# Altium schematic symbol library schematy.SchLib: 6 symbols
Pins are listed as number, name and electrical type; pins without a type are passive.

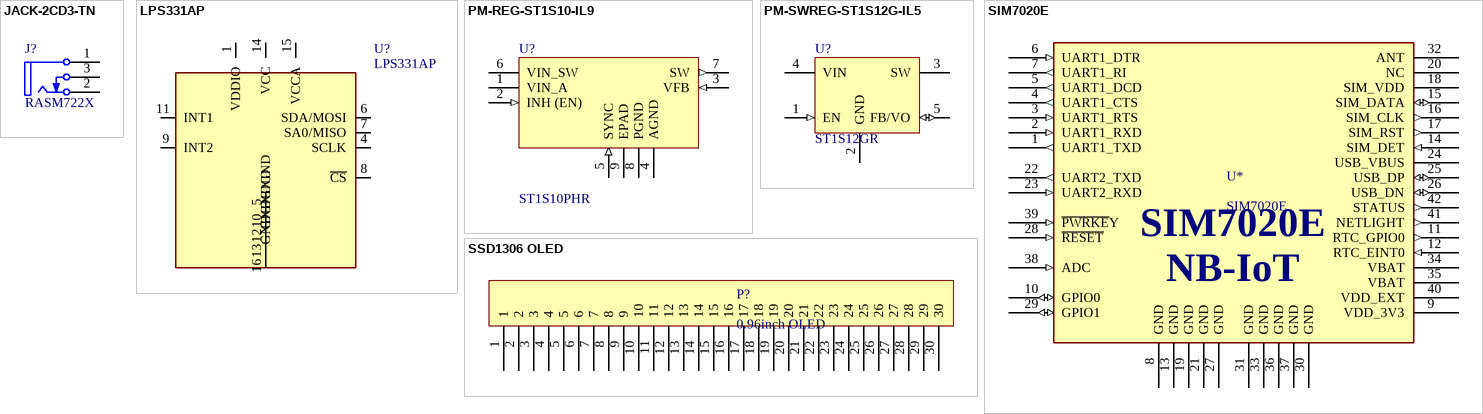
[diagram p0: symbols JACK-2CD3-TN to SSD1306 OLED]

## JACK-2CD3-TN
designator J?, comment RASM722X
Power Jack, 5 A, 250 V, 3-Pin SMD, RoHS, Bulk; ComponentLink1URL: http://www.switchcraft.com/; ComponentLink2URL: http://www.switchcraft.com/Drawings/rasm732x_cd.pdf; ComponentLink1Description: Manufacturer URL; PackageReference: RASM722X; ComponentLink2Description: Datasheet; DatasheetVersion: Rev. A, 09/2005; PackageDescription: 3-Pin Surface Mount Device, Body 14.5 x 9 mm
footprint SWIT-RASM722X_V (SMD, 3-Leads, Body 14.5x9mm)
pins: 1 SLEEVE, 2 TIP, 3 SHUNT

## LPS331AP
designator U?
IC PRESSURE SENSOR PIEZO 16HCLGA; Package: None; Price: None; Value: *; MP: LPS331AP; Availability: Unavailable
footprint HCLGA-16/3MM
pins: 1 VDDIO (io), 4 SCLK (io), 5 GND (io), 6 SDA/MOSI (io), 7 SA0/MISO (io), 8 ~{CS} (io), 9 INT2 (io), 10 GND (io), 11 INT1 (io), 12 GND (io), 13 GND (io), 14 VCC (io), 15 VCCA (io), 16 GND (io)

## PM-REG-ST1S10-IL9
designator U?, comment ST1S10PHR
Monolithic synchronous step-down regulator, 8-Pin HSOP, Tape and Reel; ComponentLink2Description: Datasheet; PackageDescription: 8-Pin Small Outline Integrated Circuit 1.27 mm Pitch; ComponentLink2URL: http://www.st.com/internet/com/TECHNICAL_RESOURCES/TECHNICAL_LITERATURE/DATASHEET/CD00169322.pdf; ComponentLink1Description: Manufacturer URL; PackageVersion: 2007; DatasheetVersion: Mar-2011; PackageReference: HSO-8; ComponentLink1URL: http://www.st.com
pins: 1 VIN_A (power), 2 INH (EN) (in), 3 VFB (in), 4 AGND (power), 5 SYNC (in), 6 VIN_SW (power), 7 SW (out), 8 PGND (power), 9 EPAD (power)

## PM-SWREG-ST1S12G-IL5
designator U?, comment ST1S12GR
Synchronous rectification with inhibit, 0.7 A, 1.7 MHz adjustable, step-down switching regulator, 5-Pin TSOT, Tape and Reel; ComponentLink1Description: Manufacturer URL; PackageVersion: 2011; ComponentLink2Description: Datasheet; PackageDescription: 5-Pin SOT-23 Package, 2.9 x 1.6 mm Body, 0.95 mm Pitch, 2.8 mm Lead Span; ComponentLink1URL: http://www.st.com; PackageReference: TSOT23-5L; ComponentLink2URL: http://www.st.com/internet/com/TECHNICAL_RESOURCES/TECHNICAL_LITERATURE/DATASHEET/CD00181873.pdf; DatasheetVersion: Jun-2011
footprint TSOT23-5L_L (SOT23, 5-Leads, Body 2.9x1.6mm, Pitch 0.95mm, Lead Span 2.8mm, IPC High Density)
footprint TSOT23-5L_M (SOT23, 5-Leads, Body 2.9x1.6mm, Pitch 0.95mm, Lead Span 2.8mm, IPC Low Density)
footprint TSOT23-5L_N (SOT23, 5-Leads, Body 2.9x1.6mm, Pitch 0.95mm, Lead Span 2.8mm, IPC Medium Density)
pins: 1 EN (in), 2 GND (power), 3 SW (power), 4 VIN (power), 5 FB/VO (io)

## SIM7020E
designator U*
Narrowband-IoT communication module; Control Via AT Commands; UART; SIM card (1.8V/3V) GPIO; ADC; Netlight; PSM_EINT; Reset; Powerkey; Supply voltage range: 2.1V-3.6V;; ComponentLink1Description: Documentation; ComponentLink1URL: https://simcom.ee/documents/SIM7020/SIM7020%20Hardware%20Design_V1.02.pdf; ComponentLink2Description: Product site; ComponentLink2URL: https://simcom.ee/modules/iot/sim7020/
footprint LCC_42PIN (LCC 42-pin case for SIMCOM SIM7020 communication module)
pins: 1 UART1_TXD (out), 2 UART1_RXD (in), 3 UART1_RTS (in), 4 UART1_CTS (out), 5 UART1_DCD (out), 6 UART1_DTR (in), 7 UART1_RI (out), 8 GND (power), 9 VDD_3V3 (power), 10 GPIO0 (io), 11 RTC_GPIO0 (out), 12 RTC_EINT0 (in), 13 GND (power), 14 SIM_DET (in), 15 SIM_DATA (io), 16 SIM_CLK (out), 17 SIM_RST (out), 18 SIM_VDD (power), 19 GND (power), 20 NC, 21 GND (power), 22 UART2_TXD (out), 23 UART2_RXD (in), 24 USB_VBUS (power), 25 USB_DP (io), 26 USB_DN (io), 27 GND (power), 28 ~{RESET} (in), 29 GPIO1 (io), 30 GND (power), 31 GND (power), 32 ANT, 33 GND (power), 34 VBAT (power), 35 VBAT (power), 36 GND (power), 37 GND (power), 38 ADC (in), 39 ~{PWRKE}Y (in), 40 VDD_EXT (power), 41 NETLIGHT (out), 42 STATUS (out)
text: NB-IoT

## SSD1306 OLED
designator P?, comment 0.96inch OLED
footprint ssd1306 (Footprint not found)
pins: 1, 2, 3, 4, 5, 6, 7, 8, 9, 10, 11, 12, 13, 14, 15, 16, 17, 18, 19, 20, 21, 22, 23, 24, 25, 26, 27, 28, 29, 30